# EAGLE library part TDCXXX (library TDCXXX)
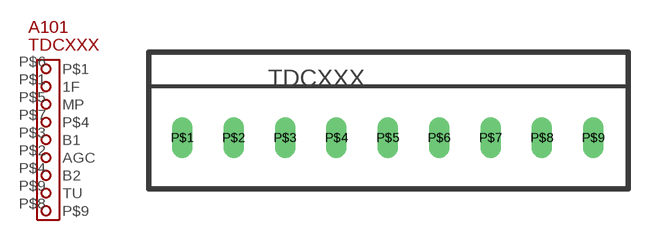
[diagram p0: symbol with the pads of TDCXXX; footprint TDCXXX]

Designator prefix -

## TDCXXXL  [TDCXXX]
P$1  1F
P$2  AGC
P$3  B1
P$4  B2
P$5  MP
P$6  P$1
P$7  P$4
P$8  P$9
P$9  TU

## Footprint TDCXXX (pad centres in mm)
drill 1.016 long: P$1 -13.97,0; P$2 -10.16,0; P$3 -6.35,0; P$4 -2.54,0; P$5 1.27,0; P$6 5.08,0; P$7 8.89,0; P$8 12.7,0; P$9 16.51,0